# Altium schematic symbol library MCP1416T-E_OT.SchLib: 1 symbol
Pins are listed as number, name and electrical type; pins without a type are passive.

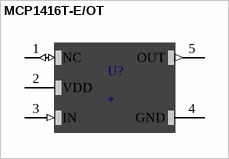
[diagram p0: symbol MCP1416T-E/OT]

## MCP1416T-E/OT
designator U?
Low-Side Gate Driver IC Non-Inverting SOT-23-5; MF: Microchip; MP: MCP1416T-E/OT; Price: None; Availability: Good; SnapEDA_Link: https://www.snapeda.com/parts/MCP1416T-E/OT/Microchip/view-part/287469/?ref=snap; Package: SOT-23-5 Microchip; Value: *; Purchase-URL: https://pricing.snapeda.com/search/part/MCP1416T-E/OT/?ref=eda; Check_prices: https://www.snapeda.com/parts/MCP1416T-E/OT/Microchip/view-part/287469/?ref=eda
footprint SOT95P270X145-5N
pins: 1 NC (io), 2 VDD (power), 3 IN (in), 4 GND (power), 5 OUT (out)